# Altium footprint library Flex_SOIC-8-5.3mm.PcbLib: 1 footprints
Each footprint in its own frame and in the unit in brackets; x right, y up, seen from the top. Pads: shape width x height; smd on the part's side, far side on the other; paste and mask are expansions set on the pad; w line width, h text height; cw(c..) or ccw(c..) is an arc to the next point about the centre after c.
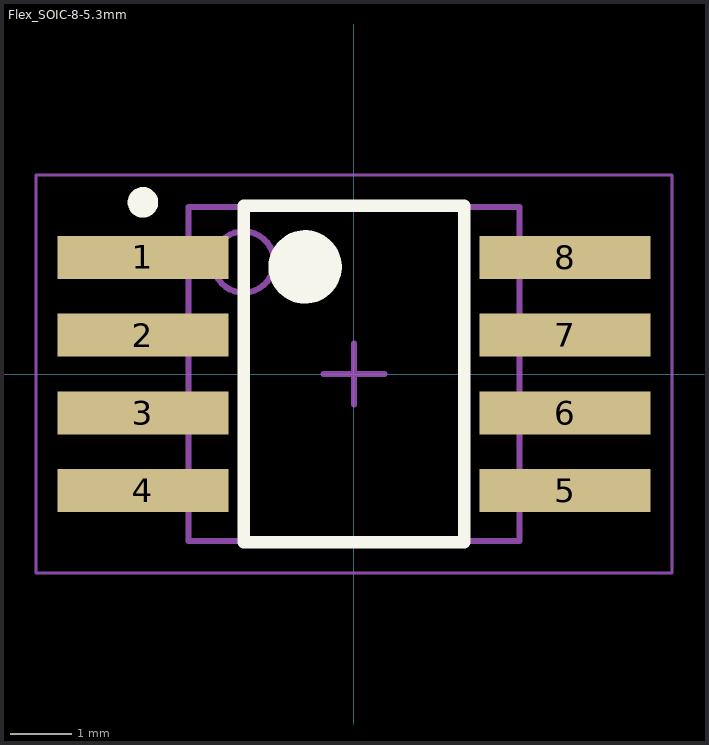
[diagram p0: the footprint, top view; thin cyan lines are the x and y axes]

## Flex_SOIC-8-5.3mm [mm] "SOP, 8-Leads, Body 5.3x5.3mm, Pitch 1.27mm, FlexPCB"
height 2.13
pads (8):
  rect 2.794x0.7 smd: 1(-3.45,1.905) 2(-3.45,0.635) 3(-3.45,-0.635) 4(-3.45,-1.905) 5(3.45,-1.905) 6(3.45,-0.635) 7(3.45,0.635) 8(3.45,1.905)
Top Overlay:
  circle w0.6: c-0.8,1.75 r0.3
  circle w0.25: c-3.45,2.805 r0.125
  lines w0.2: -1.8,-2.75 1.8,-2.75 1.8,2.75 -1.8,2.75 -1.8,-2.75
Top Solder:
  region: -4.4,-2.35 -4.42,-2.35 -4.457,-2.335 -4.485,-2.307 -4.5,-2.27 -4.5,-2.25 -4.5,2.25 -4.5,2.27 -4.485,2.307 -4.457,2.335 -4.42,2.35 -4.4,2.35 -2.5,2.35 -2.48,2.35 -2.443,2.335 -2.415,2.307 -2.4,2.27 -2.4,2.25 -2.4,-2.25 -2.4,-2.27 -2.415,-2.307 -2.443,-2.335 -2.48,-2.35 -2.5,-2.35
  region: 2.5,-2.35 2.48,-2.35 2.443,-2.335 2.415,-2.307 2.4,-2.27 2.4,-2.25 2.4,2.25 2.4,2.27 2.415,2.307 2.443,2.335 2.48,2.35 2.5,2.35 4.4,2.35 4.42,2.35 4.457,2.335 4.485,2.307 4.5,2.27 4.5,2.25 4.5,-2.25 4.5,-2.27 4.485,-2.307 4.457,-2.335 4.42,-2.35 4.4,-2.35
Mechanical 13:
  circle w0.1: c-1.805,1.83 r0.5
  lines w0.1: -2.705,-2.73 2.705,-2.73 2.705,2.73 -2.705,2.73 -2.705,-2.73
Mechanical 15:
  lines w0.05: -5.2,-3.25 5.2,-3.25 5.2,3.25 -5.2,3.25 -5.2,-3.25
  lines w0.1: -0.5,0 0.5,0 ; 0,-0.5 0,0.5
3D body: height 2.13, standoff 0.05, extent -2.705,-2.73 2.705,2.73